# Altium schematic symbol library SN74HC32N.SchLib: 1 symbol
Pins are listed as number, name and electrical type; pins without a type are passive.

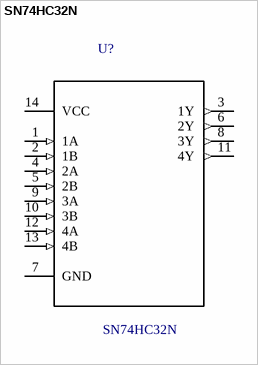
[diagram p0: symbol SN74HC32N]

## SN74HC32N
designator U?
IC: digital; Channels: 4; OR; Inputs: 2; THT; DIP14; Seri; MF: Texas Instruments; Package: DIP-14 Texas Instruments; Price: None; MP: SN74HC32N; Availability: Unavailable; SnapEDA_Link: https://www.snapeda.com/parts/SN74HC32N/Texas%20Instruments/view-part/?ref=snap; Value: *
footprint *DIP254P762X508-14
pins: 1 1A (in), 2 1B (in), 3 1Y (out), 4 2A (in), 5 2B (in), 6 2Y (out), 7 GND, 8 3Y (out), 9 3A (in), 10 3B (in), 11 4Y (out), 12 4A (in), 13 4B (in), 14 VCC (power)